# Altium schematic symbol library 12401610E4#2A.SchLib: 1 symbol
Pins are listed as number, name and electrical type; pins without a type are passive.

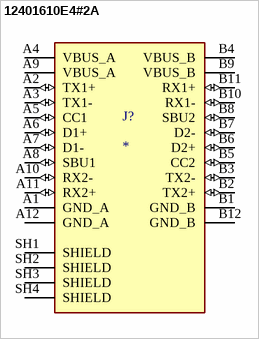
[diagram p0: symbol 12401610E4#2A]

## 12401610E4#2A
designator J?
USB Connectors USB3.1 Gen2, Type C, Receptacle,Right Angle SMT, 24 Pins,Shell with Nickel Plating, 30? Gold,; MF: Amphenol; MP: 12401610E42A; SnapEDA_Link: https://www.snapeda.com/parts/12401610E42A/Amphenol/view-part/?ref=snap; Package: None; Value: *; Check_prices: https://www.snapeda.com/parts/12401610E42A/Amphenol/view-part/?ref=eda
footprint AMPHENOL_12401610E4#2A
pins: A1 GND_A (power), A2 TX1+ (io), A3 TX1- (io), A4 VBUS_A (power), A5 CC1 (io), A6 D1+ (io), A7 D1- (io), A8 SBU1 (io), A9 VBUS_A (power), A10 RX2- (io), A11 RX2+ (io), A12 GND_A (power), B1 GND_B (power), B2 TX2+ (io), B3 TX2- (io), B4 VBUS_B (power), B5 CC2 (io), B6 D2+ (io), B7 D2- (io), B8 SBU2 (io), B9 VBUS_B (power), B10 RX1- (io), B11 RX1+ (io), B12 GND_B (power), SH1 SHIELD, SH2 SHIELD, SH3 SHIELD, SH4 SHIELD